# Altium schematic symbol library Inductor_0603.SchLib: 19 symbols
Pins are listed as number, name and electrical type; pins without a type are passive.

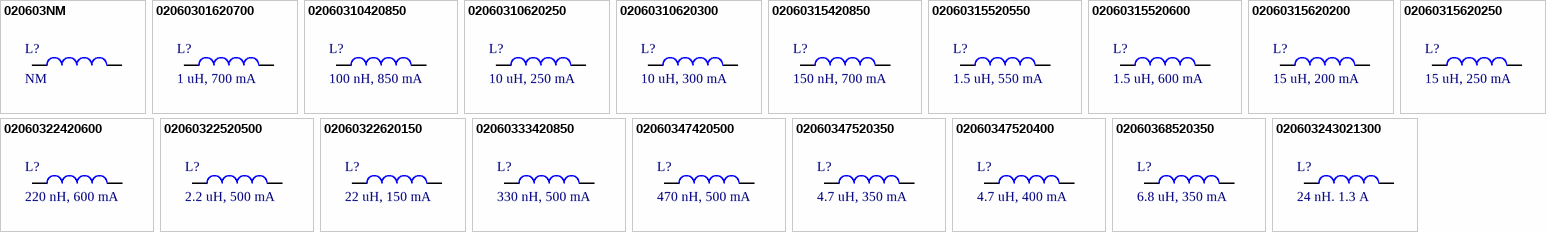
[diagram p0: symbols 020603NM to 020603243021300]

## 020603NM
designator L?, comment NM
Inductor SMD, size 0603, 1 uH, 700 mA; Maximum DC Current: 700 mA; Maximum DC Resistance: 110 mOhms; Saturation Current: 140 mA; Inductance: N/A; Tolerance: N/A; Packaging: Tape and Reel; Supplier 1 URL: N/A; Supplier 2 URL: N/A; Supplier 3 URL: N/A; ComponentLink1Description: Datasheet; ComponentLink1URL: https://product.tdk.com/system/files/dam/doc/product/inductor/inductor/smd/catalog/inductor_automotive_decoupling_mlz1608_en.pdf?ref_disty=mouser; Value: NM; Manufacturer: NM; Manufacturer Part Number: NM; Mount: SMD/SMT; Operating Temperature Max: + 125 C; Operating Temperature Min: - 55 C; Package / Case: 0603; Supplier 1: Mouser; Supplier 1 Part Number: N/A; Supplier 2: Digi-Key; Supplier 2 Part Number: N/A; Supplier 3: thegioiic; Supplier 3 Part Number: N/A; LCSC Part #: N/A
footprint 0603 (Chip Inductor, 2-Leads, Body 1.60x0.85mm, IPC Medium Density)
pins: 1, 2

## 02060301620700
designator L?, comment 1 uH, 700 mA
Inductor SMD, size 0603, 1 uH, 700 mA; Manufacturer: TDK; Manufacturer Part Number: MLZ1608N1R0LTD25; Inductance: 1 uH; Tolerance: 20%; Maximum DC Current: 700 mA; Maximum DC Resistance: 110 mOhms; Saturation Current: 140 mA; Packaging: Tape and Reel; Supplier 1 URL: https://www.mouser.vn/ProductDetail/TDK/MLZ1608N1R0LTD25?qs=u4%252BEJ9urDARZDe6QVFAkFg%3D%3D; Supplier 2 URL: https://www.digikey.com/en/products/detail/tdk-corporation/mlz1608n1r0ltd25/4743177; Supplier 3 URL: N/A; ComponentLink1Description: Datasheet; ComponentLink1URL: https://product.tdk.com/system/files/dam/doc/product/inductor/inductor/smd/catalog/inductor_automotive_decoupling_mlz1608_en.pdf?ref_disty=mouser; Value: 1 uH, 700 mA; Mount: SMD/SMT; Operating Temperature Max: + 125 C; Operating Temperature Min: - 55 C; Package / Case: 0603; Supplier 1: Mouser; Supplier 1 Part Number: 810-MLZ1608N1R0LTD25; Supplier 2: Digi-Key; Supplier 2 Part Number: 445-17068-2-ND; Supplier 3: thegioiic; Supplier 3 Part Number: N/A; LCSC Part #: N/A
footprint 0603 (Chip Inductor, 2-Leads, Body 1.60x0.85mm, IPC Medium Density)
pins: 1, 2

## 02060310420850
designator L?, comment 100 nH, 850 mA
Inductor SMD, size 0603, 100 nH, 850 mA; Manufacturer: TDK; Manufacturer Part Number: MLZ1608DR10DTD25; Inductance: 100 nH; Tolerance: 20%; Maximum DC Current: 850 mA; Maximum DC Resistance: 140 mOhms; Saturation Current: 700 mA; Packaging: Tape and Reel; Supplier 1 URL: https://www.mouser.vn/ProductDetail/TDK/MLZ1608DR10DTD25?qs=u4%252BEJ9urDARQOELDKhLR2A%3D%3D; Supplier 2 URL: https://www.digikey.com/en/products/detail/tdk-corporation/MLZ1608DR10DTD25/4743170; Supplier 3 URL: N/A; ComponentLink1Description: Datasheet; ComponentLink1URL: https://product.tdk.com/system/files/dam/doc/product/inductor/inductor/smd/catalog/inductor_automotive_decoupling_mlz1608_en.pdf?ref_disty=mouser; Value: 100 nH, 850 mA; Mount: SMD/SMT; Operating Temperature Max: + 125 C; Operating Temperature Min: - 55 C; Package / Case: 0603; Supplier 1: Mouser; Supplier 1 Part Number: 810-MLZ1608DR10DTD25; Supplier 2: Digi-Key; Supplier 2 Part Number: 445-181772-2-ND; Supplier 3: thegioiic; Supplier 3 Part Number: N/A; LCSC Part #: N/A
footprint 0603 (Chip Inductor, 2-Leads, Body 1.60x0.85mm, IPC Medium Density)
pins: 1, 2

## 02060310620250
designator L?, comment 10 uH, 250 mA
Inductor SMD, size 0603, 10 uH, 250 mA; Manufacturer: TDK; Manufacturer Part Number: MLZ1608M100WTD25; Inductance: 10 uH; Tolerance: 20%; Maximum DC Current: 250 mA; Maximum DC Resistance: 1.05 Ohms; Saturation Current: 90 mA; Packaging: Tape and Reel; Supplier 1 URL: https://www.mouser.vn/ProductDetail/TDK/MLZ1608M100WTD25?qs=u4%252BEJ9urDATpNhOvJ54DAQ%3D%3D; Supplier 2 URL: https://www.digikey.com/en/products/detail/tdk-corporation/MLZ1608M100WTD25/4743176; Supplier 3 URL: N/A; ComponentLink1Description: Datasheet; ComponentLink1URL: https://product.tdk.com/system/files/dam/doc/product/inductor/inductor/smd/catalog/inductor_automotive_decoupling_mlz1608_en.pdf?ref_disty=mouser; Value: 10 uH, 250 mA; Mount: SMD/SMT; Operating Temperature Max: + 125 C; Operating Temperature Min: - 55 C; Package / Case: 0603; Supplier 1: Mouser; Supplier 1 Part Number: 810-MLZ1608M100WTD25; Supplier 2: Digi-Key; Supplier 2 Part Number: 445-175588-2-ND; Supplier 3: thegioiic; Supplier 3 Part Number: N/A; LCSC Part #: N/A
footprint 0603 (Chip Inductor, 2-Leads, Body 1.60x0.85mm, IPC Medium Density)
pins: 1, 2

## 02060310620300
designator L?, comment 10 uH, 300 mA
Inductor SMD, size 0603, 10 uH, 250 mA; Manufacturer: TDK; Manufacturer Part Number: MLZ1608N100LTD25; Inductance: 10 uH; Tolerance: 20%; Maximum DC Current: 300 mA; Maximum DC Resistance: 600 mOhms; Saturation Current: 60 mA; Packaging: Tape and Reel; Supplier 1 URL: https://www.mouser.vn/ProductDetail/TDK/MLZ1608N100LTD25?qs=u4%252BEJ9urDAR9PN74yn68fw%3D%3D; Supplier 2 URL: https://www.digikey.com/en/products/detail/tdk-corporation/MLZ1608N100LTD25/4743180; Supplier 3 URL: N/A; ComponentLink1Description: Datasheet; ComponentLink1URL: https://product.tdk.com/system/files/dam/doc/product/inductor/inductor/smd/catalog/inductor_automotive_decoupling_mlz1608_en.pdf?ref_disty=mouser; Value: 10 uH, 300 mA; Mount: SMD/SMT; Operating Temperature Max: + 125 C; Operating Temperature Min: - 55 C; Package / Case: 0603; Supplier 1: Mouser; Supplier 1 Part Number: 810-MLZ1608N100LTD25; Supplier 2: Digi-Key; Supplier 2 Part Number: 445-17067-2-ND; Supplier 3: thegioiic; Supplier 3 Part Number: N/A; LCSC Part #: N/A
footprint 0603 (Chip Inductor, 2-Leads, Body 1.60x0.85mm, IPC Medium Density)
pins: 1, 2

## 02060315420850
designator L?, comment 150 nH, 700 mA
Inductor SMD, size 0603, 150 nH, 850 mA; Manufacturer: TDK; Manufacturer Part Number: MLJ1608WR15JT000; Inductance: 150 nH; Tolerance: 5%; Maximum DC Current: 600mA; Maximum DC Resistance: 160 mOhms; Saturation Current: 750 mA; Packaging: Tape and Reel; Supplier 1 URL: https://www.mouser.com/ProductDetail/TDK/MLJ1608WR15JT000?qs=gZXFycFWdAMtGVv%2FLL6t4w%3D%3D; Supplier 2 URL: https://www.digikey.com/en/products/detail/tdk-corporation/mlj1608wr15jt000/9925364; Supplier 3 URL: N/A; ComponentLink1Description: Datasheet; ComponentLink1URL: https://www.lcsc.com/datasheet/C3910555.pdf; Value: 150 nH, 700 mA; Mount: SMD/SMT; Operating Temperature Max: + 125 C; Operating Temperature Min: - 55 C; Package / Case: 0603; Supplier 1: Mouser; Supplier 1 Part Number: 810-MLJ1608WR15JT000; Supplier 2: Digi-Key; Supplier 2 Part Number: 445-181511-2-ND; Supplier 3: thegioiic; Supplier 3 Part Number: N/A; LCSC Part #: C3910555
footprint 0603 (Chip Inductor, 2-Leads, Body 1.60x0.85mm, IPC Medium Density)
pins: 1, 2

## 02060315520550
designator L?, comment 1.5 uH, 550 mA
Inductor SMD, size 0603, 1.5 uH, 550 mA; Manufacturer: TDK; Manufacturer Part Number: MLZ1608A1R5WTD25; Inductance: 1.5 uH; Tolerance: 20%; Maximum DC Current: 550 mA; Maximum DC Resistance: 210 mOhms; Saturation Current: 160 mA; Packaging: Tape and Reel; Supplier 1 URL: https://www.mouser.vn/ProductDetail/TDK/MLZ1608A1R5WTD25?qs=%252B6g0mu59x7Lg7CF61%2F9A9Q%3D%3D; Supplier 2 URL: https://www.digikey.com/en/products/detail/tdk-corporation/MLZ1608A1R5WTD25/10444786; Supplier 3 URL: N/A; ComponentLink1Description: Datasheet; ComponentLink1URL: https://product.tdk.com/system/files/dam/doc/product/inductor/inductor/smd/catalog/inductor_automotive_decoupling_mlz1608_en.pdf?ref_disty=mouser; Value: 1.5 uH, 550 mA; Mount: SMD/SMT; Operating Temperature Max: + 125 C; Operating Temperature Min: - 55 C; Package / Case: 0603; Supplier 1: Mouser; Supplier 1 Part Number: 810-MLZ1608A1R5WTD25; Supplier 2: Digi-Key; Supplier 2 Part Number: 445-MLZ1608A1R5WTD25TR-ND; Supplier 3: thegioiic; Supplier 3 Part Number: N/A; LCSC Part #: N/A
footprint 0603 (Chip Inductor, 2-Leads, Body 1.60x0.85mm, IPC Medium Density)
pins: 1, 2

## 02060315520600
designator L?, comment 1.5 uH, 600 mA
Inductor SMD, size 0603, 1.5 uH, 600 mA; Manufacturer: TDK; Manufacturer Part Number: MLZ1608N1R5LTD25; Inductance: 1.5 uH; Tolerance: 20%; Maximum DC Current: 600 mA; Maximum DC Resistance: 140 mOhms; Saturation Current: 130 mA; Packaging: Tape and Reel; Supplier 1 URL: https://www.mouser.vn/ProductDetail/TDK/MLZ1608N1R5LTD25?qs=%252B6g0mu59x7I%2FeUgyQk2KQQ%3D%3D; Supplier 2 URL: https://www.digikey.com/en/products/detail/tdk-corporation/MLZ1608N1R5LTD25/10444796; Supplier 3 URL: N/A; ComponentLink1Description: Datasheet; ComponentLink1URL: https://product.tdk.com/system/files/dam/doc/product/inductor/inductor/smd/catalog/inductor_automotive_decoupling_mlz1608_en.pdf?ref_disty=mouser; Value: 1.5 uH, 600 mA; Mount: SMD/SMT; Operating Temperature Max: + 125 C; Operating Temperature Min: - 55 C; Package / Case: 0603; Supplier 1: Mouser; Supplier 1 Part Number: 810-MLZ1608N1R5LTD25; Supplier 2: Digi-Key; Supplier 2 Part Number: 445-MLZ1608N1R5LTD25TR-ND; Supplier 3: thegioiic; Supplier 3 Part Number: N/A; LCSC Part #: N/A
footprint 0603 (Chip Inductor, 2-Leads, Body 1.60x0.85mm, IPC Medium Density)
pins: 1, 2

## 02060315620200
designator L?, comment 15 uH, 200 mA
Inductor SMD, size 0603, 15 uH, 200 mA; Manufacturer: TDK; Manufacturer Part Number: MLZ1608M150WTD25; Inductance: 15 uH; Tolerance: 20%; Maximum DC Current: 200 mA; Maximum DC Resistance: 1.5 Ohms; Saturation Current: 70 mA; Packaging: Tape and Reel; Supplier 1 URL: https://www.mouser.vn/ProductDetail/TDK/MLZ1608M150WTD25?qs=%252B6g0mu59x7I%252BOawrISh7jg%3D%3D; Supplier 2 URL: https://www.digikey.com/en/products/detail/tdk-corporation/MLZ1608M150WTD25/10444797; Supplier 3 URL: N/A; ComponentLink1Description: Datasheet; ComponentLink1URL: https://product.tdk.com/system/files/dam/doc/product/inductor/inductor/smd/catalog/inductor_automotive_decoupling_mlz1608_en.pdf?ref_disty=mouser; Value: 15 uH, 200 mA; Mount: SMD/SMT; Operating Temperature Max: + 125 C; Operating Temperature Min: - 55 C; Package / Case: 0603; Supplier 1: Mouser; Supplier 1 Part Number: 810-MLZ1608M150WTD25; Supplier 2: Digi-Key; Supplier 2 Part Number: 445-MLZ1608M150WTD25TR-ND; Supplier 3: thegioiic; Supplier 3 Part Number: N/A; LCSC Part #: N/A
footprint 0603 (Chip Inductor, 2-Leads, Body 1.60x0.85mm, IPC Medium Density)
pins: 1, 2

## 02060315620250
designator L?, comment 15 uH, 250 mA
Inductor SMD, size 0603, 15 uH, 250 mA; Manufacturer: TDK; Manufacturer Part Number: MLZ1608N150LTD25; Inductance: 15 uH; Tolerance: 20%; Maximum DC Current: 250 mA; Maximum DC Resistance: 1.02 Ohms; Saturation Current: 55 mA; Packaging: Tape and Reel; Supplier 1 URL: https://www.mouser.vn/ProductDetail/TDK/MLZ1608N150LTD25?qs=%252B6g0mu59x7JxcDPDnoSQZQ%3D%3D; Supplier 2 URL: https://www.digikey.com/en/products/detail/tdk-corporation/MLZ1608N150LTD25/10444795; Supplier 3 URL: N/A; ComponentLink1Description: Datasheet; ComponentLink1URL: https://product.tdk.com/system/files/dam/doc/product/inductor/inductor/smd/catalog/inductor_automotive_decoupling_mlz1608_en.pdf?ref_disty=mouser; Value: 15 uH, 250 mA; Mount: SMD/SMT; Operating Temperature Max: + 125 C; Operating Temperature Min: - 55 C; Package / Case: 0603; Supplier 1: Mouser; Supplier 1 Part Number: 810-MLZ1608N150LTD25; Supplier 2: Digi-Key; Supplier 2 Part Number: 445-MLZ1608N150LTD25TR-ND; Supplier 3: thegioiic; Supplier 3 Part Number: N/A; LCSC Part #: N/A
footprint 0603 (Chip Inductor, 2-Leads, Body 1.60x0.85mm, IPC Medium Density)
pins: 1, 2

## 02060322420600
designator L?, comment 220 nH, 600 mA
Inductor SMD, size 0603, 220 nH, 600 mA; Manufacturer: TDK; Manufacturer Part Number: MLZ1608DR22DTD25; Inductance: 220 nH; Tolerance: 20%; Maximum DC Current: 600 mA; Maximum DC Resistance: 270 mOhms; Saturation Current: 550 mA; Packaging: Tape and Reel; Supplier 1 URL: https://www.mouser.vn/ProductDetail/TDK/MLZ1608DR22DTD25?qs=u4%252BEJ9urDAQSgs4hTIdNHg%3D%3D; Supplier 2 URL: https://www.digikey.com/en/products/detail/tdk-corporation/MLZ1608DR22DTD25/4743171; Supplier 3 URL: N/A; ComponentLink1Description: Datasheet; ComponentLink1URL: https://product.tdk.com/system/files/dam/doc/product/inductor/inductor/smd/catalog/inductor_automotive_decoupling_mlz1608_en.pdf?ref_disty=mouser; Value: 220 nH, 600 mA; Mount: SMD/SMT; Operating Temperature Max: + 125 C; Operating Temperature Min: - 55 C; Package / Case: 0603; Supplier 1: Mouser; Supplier 1 Part Number: 810-MLZ1608DR22DTD25; Supplier 2: Digi-Key; Supplier 2 Part Number: 445-181773-2-ND; Supplier 3: thegioiic; Supplier 3 Part Number: N/A; LCSC Part #: N/A
footprint 0603 (Chip Inductor, 2-Leads, Body 1.60x0.85mm, IPC Medium Density)
pins: 1, 2

## 02060322520500
designator L?, comment 2.2 uH, 500 mA
Inductor SMD, size 0603, 2.2 uH, 500 mA; Manufacturer: TDK; Manufacturer Part Number: MLZ1608A2R2WTD25; Inductance: 2.2 uH; Tolerance: 20%; Maximum DC Current: 500 mA; Maximum DC Resistance: 250 mOhms; Saturation Current: 130 mA; Packaging: Tape and Reel; Supplier 1 URL: https://www.mouser.vn/ProductDetail/TDK/MLZ1608A2R2WTD25?qs=u4%252BEJ9urDATk7ZqxOPwIUA%3D%3D; Supplier 2 URL: https://www.digikey.com/en/products/detail/tdk-corporation/MLZ1608A2R2WTD25/4743174; Supplier 3 URL: N/A; ComponentLink1Description: Datasheet; ComponentLink1URL: https://product.tdk.com/system/files/dam/doc/product/inductor/inductor/smd/catalog/inductor_automotive_decoupling_mlz1608_en.pdf?ref_disty=mouser; Value: 2.2 uH, 500 mA; Mount: SMD/SMT; Operating Temperature Max: + 125 C; Operating Temperature Min: - 55 C; Package / Case: 0603; Supplier 1: Mouser; Supplier 1 Part Number: 810-MLZ1608A2R2WTD25; Supplier 2: Digi-Key; Supplier 2 Part Number: 445-MLZ1608A2R2WTD25TR-ND; Supplier 3: thegioiic; Supplier 3 Part Number: N/A; LCSC Part #: N/A
footprint 0603 (Chip Inductor, 2-Leads, Body 1.60x0.85mm, IPC Medium Density)
pins: 1, 2

## 02060322620150
designator L?, comment 22 uH, 150 mA
Inductor SMD, size 0603, 2.2 uH, 500 mA; Manufacturer: TDK; Manufacturer Part Number: MLZ1608M220WTD25; Inductance: 22 uH; Tolerance: 20%; Maximum DC Current: 150 mA; Maximum DC Resistance: 2.4 Ohms; Saturation Current: 55 mA; Packaging: Tape and Reel; Supplier 1 URL: https://www.mouser.vn/ProductDetail/TDK/MLZ1608M220WTD25?qs=YdQ7Kj7W0bxoaxZZHsF4zA%3D%3D; Supplier 2 URL: https://www.digikey.com/en/products/detail/tdk-corporation/MLZ1608M220WTD25/5286368; Supplier 3 URL: N/A; ComponentLink1Description: Datasheet; ComponentLink1URL: https://product.tdk.com/system/files/dam/doc/product/inductor/inductor/smd/catalog/inductor_automotive_decoupling_mlz1608_en.pdf?ref_disty=mouser; Value: 22 uH, 150 mA; Mount: SMD/SMT; Operating Temperature Max: + 125 C; Operating Temperature Min: - 55 C; Package / Case: 0603; Supplier 1: Mouser; Supplier 1 Part Number: 810-MLZ1608M220WTD25; Supplier 2: Digi-Key; Supplier 2 Part Number: 445-175589-2-ND; Supplier 3: thegioiic; Supplier 3 Part Number: N/A; LCSC Part #: N/A
footprint 0603 (Chip Inductor, 2-Leads, Body 1.60x0.85mm, IPC Medium Density)
pins: 1, 2

## 02060333420850
designator L?, comment 330 nH, 500 mA
Inductor SMD, size 0603, 330 nH, 850 mA; Manufacturer: TDK; Manufacturer Part Number: MLJ1608WR33JT000; Inductance: 330 nH; Tolerance: 5%; Maximum DC Current: 500 mA; Maximum DC Resistance: 320 mOhms; Saturation Current: 650 mA; Packaging: Tape and Reel; Supplier 1 URL: https://www.mouser.com/ProductDetail/TDK/MLJ1608WR33JT000?qs=XFe3dyCRgQj%2F5c1K5C39Zw%3D%3D; Supplier 2 URL: https://www.digikey.com/en/products/detail/tdk-corporation/mlj1608wr33jt000/5813285; Supplier 3 URL: N/A; ComponentLink1Description: Datasheet; ComponentLink1URL: https://www.lcsc.com/datasheet/C502010.pdf; Value: 330 nH, 500 mA; Mount: SMD/SMT; Operating Temperature Max: + 125 C; Operating Temperature Min: - 55 C; Package / Case: 0603; Supplier 1: Mouser; Supplier 1 Part Number: 810-MLJ1608WR33JT000; Supplier 2: Digi-Key; Supplier 2 Part Number: 445-174190-2-ND; Supplier 3: thegioiic; Supplier 3 Part Number: N/A; LCSC Part #: C502010
footprint 0603 (Chip Inductor, 2-Leads, Body 1.60x0.85mm, IPC Medium Density)
pins: 1, 2

## 02060347420500
designator L?, comment 470 nH, 500 mA
Inductor SMD, size 0603, 470 nH, 500 mA; Manufacturer: TDK; Manufacturer Part Number: MLZ1608DR47DTD25; Inductance: 470 nH; Tolerance: 20%; Maximum DC Current: 500 mA; Maximum DC Resistance: 420 mOhms; Saturation Current: 400 mA; Packaging: Tape and Reel; Supplier 1 URL: https://www.mouser.vn/ProductDetail/TDK/MLZ1608DR47DTD25?qs=u4%252BEJ9urDASb15lCTTiHEg%3D%3D; Supplier 2 URL: https://www.digikey.com/en/products/detail/tdk-corporation/MLZ1608DR47DTD25/4743172; Supplier 3 URL: N/A; ComponentLink1Description: Datasheet; ComponentLink1URL: https://product.tdk.com/system/files/dam/doc/product/inductor/inductor/smd/catalog/inductor_automotive_decoupling_mlz1608_en.pdf?ref_disty=mouser; Value: 470 nH, 500 mA; Mount: SMD/SMT; Operating Temperature Max: + 125 C; Operating Temperature Min: - 55 C; Package / Case: 0603; Supplier 1: Mouser; Supplier 1 Part Number: 810-MLZ1608DR47DTD25; Supplier 2: Digi-Key; Supplier 2 Part Number: 445-175372-2-ND; Supplier 3: thegioiic; Supplier 3 Part Number: N/A; LCSC Part #: N/A
footprint 0603 (Chip Inductor, 2-Leads, Body 1.60x0.85mm, IPC Medium Density)
pins: 1, 2

## 02060347520350
designator L?, comment 4.7 uH, 350 mA
Inductor SMD, size 0603, 4.7 uH, 350 mA; Manufacturer: TDK; Manufacturer Part Number: MLZ1608M4R7WTD25; Inductance: 4.7 uH; Tolerance: 20%; Maximum DC Current: 350 mA; Maximum DC Resistance: 500 mOhms; Saturation Current: 120 mA; Packaging: Tape and Reel; Supplier 1 URL: https://www.mouser.vn/ProductDetail/TDK/MLZ1608M4R7WTD25?qs=u4%252BEJ9urDARoIG2pH84vrg%3D%3D; Supplier 2 URL: https://www.digikey.com/en/products/detail/tdk-corporation/MLZ1608M4R7WTD25/4743175; Supplier 3 URL: N/A; ComponentLink1Description: Datasheet; ComponentLink1URL: https://product.tdk.com/system/files/dam/doc/product/inductor/inductor/smd/catalog/inductor_automotive_decoupling_mlz1608_en.pdf?ref_disty=mouser; Value: 4.7 uH, 350 mA; Mount: SMD/SMT; Operating Temperature Max: + 125 C; Operating Temperature Min: - 55 C; Package / Case: 0603; Supplier 1: Mouser; Supplier 1 Part Number: 810-MLZ1608M4R7WTD25; Supplier 2: Digi-Key; Supplier 2 Part Number: 445-181774-2-ND; Supplier 3: thegioiic; Supplier 3 Part Number: N/A; LCSC Part #: N/A
footprint 0603 (Chip Inductor, 2-Leads, Body 1.60x0.85mm, IPC Medium Density)
pins: 1, 2

## 02060347520400
designator L?, comment 4.7 uH, 400 mA
Inductor SMD, size 0603, 4.7 uH, 400 mA; Manufacturer: TDK; Manufacturer Part Number: MLZ1608N4R7LTD25; Inductance: 4.7 uH; Tolerance: 20%; Maximum DC Current: 400 mA; Maximum DC Resistance: 320 mOhms; Saturation Current: 80 mA; Packaging: Tape and Reel; Supplier 1 URL: https://www.mouser.vn/ProductDetail/TDK/MLZ1608N4R7LTD25?qs=u4%252BEJ9urDATh1I%2FCoJo5pA%3D%3D; Supplier 2 URL: https://www.digikey.com/en/products/detail/tdk-corporation/MLZ1608N4R7LTD25/4743179; Supplier 3 URL: N/A; ComponentLink1Description: Datasheet; ComponentLink1URL: https://product.tdk.com/system/files/dam/doc/product/inductor/inductor/smd/catalog/inductor_automotive_decoupling_mlz1608_en.pdf?ref_disty=mouser; Value: 4.7 uH, 400 mA; Mount: SMD/SMT; Operating Temperature Max: + 125 C; Operating Temperature Min: - 55 C; Package / Case: 0603; Supplier 1: Mouser; Supplier 1 Part Number: 810-MLZ1608N4R7LTD25; Supplier 2: Digi-Key; Supplier 2 Part Number: 445-17071-2-ND; Supplier 3: thegioiic; Supplier 3 Part Number: N/A; LCSC Part #: N/A
footprint 0603 (Chip Inductor, 2-Leads, Body 1.60x0.85mm, IPC Medium Density)
pins: 1, 2

## 02060368520350
designator L?, comment 6.8 uH, 350 mA
Inductor SMD, size 0603, 6.8 uH, 350 mA; Manufacturer: TDK; Manufacturer Part Number: MLZ1608N6R8LTD25; Inductance: 6.8 uH; Tolerance: 20%; Maximum DC Current: 350 mA; Maximum DC Resistance: 500 mOhms; Saturation Current: 80 mA; Packaging: Tape and Reel; Supplier 1 URL: https://www.mouser.vn/ProductDetail/TDK/MLZ1608N6R8LTD25?qs=%252B6g0mu59x7J9YLPGsJOURg%3D%3D; Supplier 2 URL: https://www.digikey.com/en/products/detail/tdk-corporation/MLZ1608N6R8LTD25/10444790; Supplier 3 URL: N/A; ComponentLink1Description: Datasheet; ComponentLink1URL: https://product.tdk.com/system/files/dam/doc/product/inductor/inductor/smd/catalog/inductor_automotive_decoupling_mlz1608_en.pdf?ref_disty=mouser; Value: 6.8 uH, 350 mA; Mount: SMD/SMT; Operating Temperature Max: + 125 C; Operating Temperature Min: - 55 C; Package / Case: 0603; Supplier 1: Mouser; Supplier 1 Part Number: 810-MLZ1608N6R8LTD25; Supplier 2: Digi-Key; Supplier 2 Part Number: 445-MLZ1608N6R8LTD25TR-ND; Supplier 3: thegioiic; Supplier 3 Part Number: N/A; LCSC Part #: N/A
footprint 0603 (Chip Inductor, 2-Leads, Body 1.60x0.85mm, IPC Medium Density)
pins: 1, 2

## 020603243021300
designator L?, comment 24 nH. 1.3 A
Inductor SMD, size 0603, 24 nH, 1.3 A, 2%; Manufacturer: muRata; Manufacturer Part Number: LQW18AN24NG80D; Inductance: 24 nH; Maximum DC Current: 1.3 A; Maximum DC Resistance: 86 mOhms; Saturation Current: 80 mA; Tolerance: 2%; Packaging: Tape and Reel; Supplier 1 URL: https://www.mouser.com/ProductDetail/Murata-Electronics/LQW18AN24NG80D?qs=p1l%252BOuySasIQdoDjVP8QCg%3D%3D; Supplier 2 URL: https://www.digikey.com/en/products/detail/murata-electronics/lqw18an24ng80d/4906028; Supplier 3 URL: N/A; ComponentLink1Description: Datasheet; ComponentLink1URL: https://www.lcsc.com/datasheet/C2044044.pdf; Value: 24 nH. 1.3 A; Mount: SMD/SMT; Operating Temperature Max: + 125 C; Operating Temperature Min: - 55 C; Package / Case: 0603; Supplier 1: Mouser; Supplier 1 Part Number: 81-LQW18AN24NG80D; Supplier 2: Digi-Key; Supplier 2 Part Number: 490-17902-2-ND; Supplier 3: thegioiic; Supplier 3 Part Number: N/A; LCSC Part #: C2044044
footprint 0603 (Chip Inductor, 2-Leads, Body 1.60x0.85mm, IPC Medium Density)
pins: 1, 2